# Altium footprint library ABL-20.PCBLIB: 1 footprints
Each footprint in its own frame and in the unit in brackets; x right, y up, seen from the top. Pads: shape width x height; smd on the part's side, far side on the other; paste and mask are expansions set on the pad; w line width, h text height; cw(c..) or ccw(c..) is an arc to the next point about the centre after c.
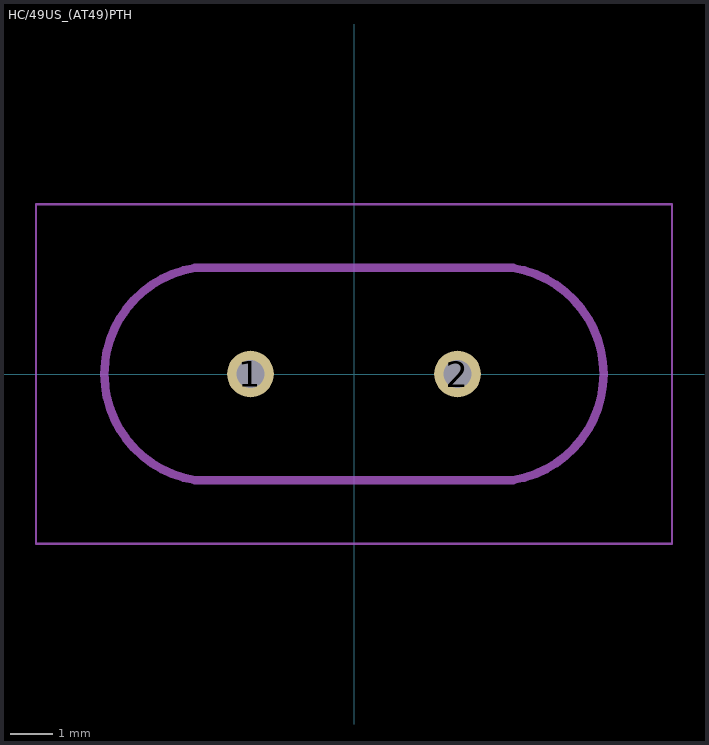
[diagram p0: the footprint, top view; thin cyan lines are the x and y axes]

## HC/49US_(AT49)PTH [mm]
pads (2):
  round 1.1 / inner round 1.524 / far side round 1.1 hole 0.66: 1(-2.44,0) 2(2.44,0)
Mechanical 8:
  lines w0.05: -7.5,-4 7.5,-4 7.5,4 -7.5,4 -7.5,-4
  lines w0.2: -3.75,-2.5 3.75,-2.5 ccw(c3.35,0) 3.75,2.5 -3.75,2.5 ccw(c-3.352,0) -3.75,-2.5
Mechanical 22:
  lines w0.1: -3.75,-2.5 3.75,-2.5 ccw(c3.35,0) 3.75,2.5 -3.75,2.5 ccw(c-3.352,0) -3.75,-2.5